# EAGLE library part BORNE-3-500-WAGO2604+804 (library JLB6_Connec)
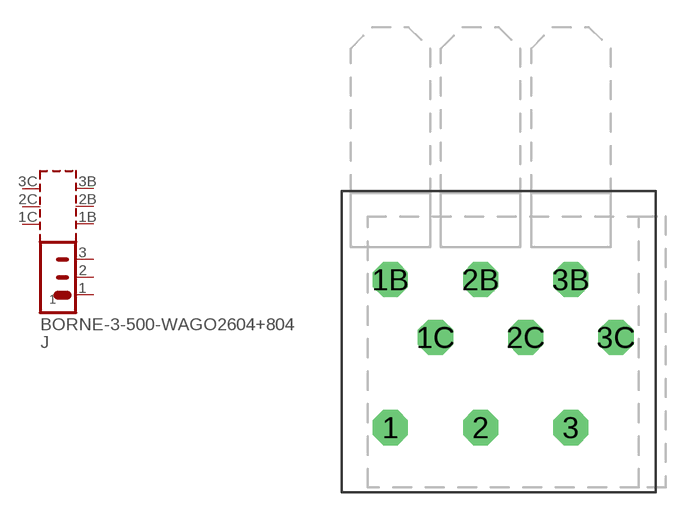
[diagram p72: symbol with the pads of BORNE-WAGO-3-500-TOP2; footprint BORNE-WAGO-3-500-TOP2]

Designator prefix J

## BORNE-3-500-WAGO2604+804  [BORNE-WAGO-3-500-TOP2]
1  1  pas
1B  1B  pas
1C  1C  pas
2  2  pas
2B  2B  pas
2C  2C  pas
3  3  pas
3B  3B  pas
3C  3C  pas

## Footprint BORNE-WAGO-3-500-TOP2 (pad centres in mm)
drill 1.3 octagon: 1 -5,-4; 1B -5,4.2; 1C -2.5,1; 2 0,-4; 2B 0,4.2; 2C 2.5,1; 3 5,-4; 3B 5,4.2; 3C 7.5,1